# Altium schematic symbol library RFM70.SchLib: 1 symbol
Pins are listed as number, name and electrical type; pins without a type are passive.

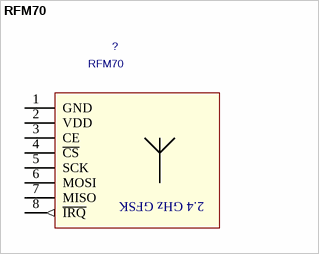
[diagram p0: symbol RFM70]

## RFM70
designator ?
Value: *
footprint RFM70
pins: 1 GND (power), 2 VDD (power), 3 CE, 4 ~{CS}, 5 SCK, 6 MOSI, 7 MISO, 8 ~{IRQ} (out)
text: 2.4 GHz GFSK